# Altium schematic symbol library 40 Family.SchLib: 3 symbols
Pins are listed as number, name and electrical type; pins without a type are passive.

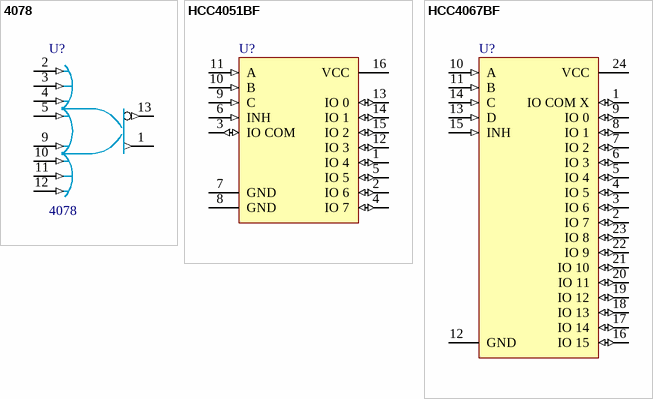
[diagram p0: symbols 4078 to HCC4067BF]

## 4078
designator U?
8-Input NOR/OR Gate
footprint DIP14
pins: 1 Y (out), 2 A (in), 3 B (in), 4 C (in), 5 D (in), 7 GND (power) hidden to GND, 9 E (in), 10 F (in), 11 G (in), 12 H (in), 13 X (out), 14 VCC (power) hidden to VCC

## HCC4051BF
designator U?
Analog Multiplexer/Demultiplexer; Published: 8-Jun-2000; LatestRevisionDate: 06-Jun-2005; LatestRevisionNote: Stylized 3D Model Added.; DatasheetVersion: Jun-1989; PackageVersion: Apr-1996; PackageReference: DIP16; Publisher: Altium Limited; PackageDescription: DIP; 16 Leads; Row Spacing 7.62 mm; Pitch 2.54 mm; ComponentLink1Description: Manufacturer Link; ComponentLink1URL: http://www.st.com/
footprint DIP16
footprint SO16
pins: 1 IO 4 (io), 2 IO 6 (io), 3 IO COM (io), 4 IO 7 (io), 5 IO 5 (io), 6 INH (in), 7 GND (power), 8 GND (power), 9 C (in), 10 B (in), 11 A (in), 12 IO 3 (io), 13 IO 0 (io), 14 IO 1 (io), 15 IO 2 (io), 16 VCC (power)

## HCC4067BF
designator U?
Analog Multiplexer/Demultiplexer; Published: 8-Jun-2000; LatestRevisionDate: 06-Jun-2005; LatestRevisionNote: Stylized 3D Model Added.; DatasheetVersion: Sep-1988; PackageVersion: Sep-1988; PackageReference: CDIP24; Publisher: Altium Limited; PackageDescription: DIP; 24 Leads; Row Spacing 15.24 mm; Pitch 2.54 mm; ComponentLink1Description: Manufacturer Link; ComponentLink1URL: http://www.st.com/
footprint DIP24
pins: 1 IO COM X (io), 2 IO 7 (io), 3 IO 6 (io), 4 IO 5 (io), 5 IO 4 (io), 6 IO 3 (io), 7 IO 2 (io), 8 IO 1 (io), 9 IO 0 (io), 10 A (in), 11 B (in), 12 GND (power), 13 D (in), 14 C (in), 15 INH (in), 16 IO 15 (io), 17 IO 14 (io), 18 IO 13 (io), 19 IO 12 (io), 20 IO 11 (io), 21 IO 10 (io), 22 IO 9 (io), 23 IO 8 (io), 24 VCC (power)